# Altium schematic symbol library 20N60.SchLib: 1 symbol
Pins are listed as number, name and electrical type; pins without a type are passive.

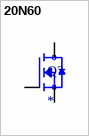
[diagram p0: symbol 20N60]

## 20N60
designator Q?
footprint TO253P1057X470X2040-3
pins: 1 G, 1 D, 2 D, 2 D, 2 D, 3 S